# EAGLE library part REF195 (library open-ephys)
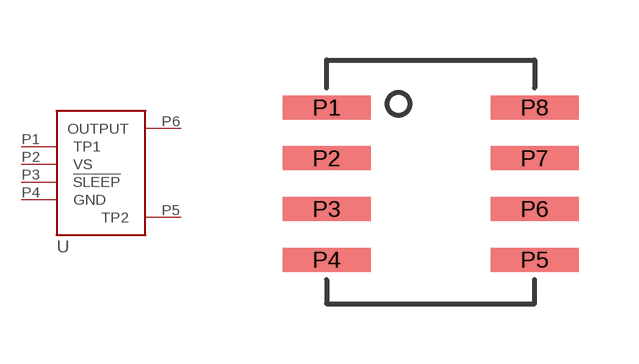
[diagram p8: symbol with the pads of 8-SOIC; footprint 8-SOIC]

Designator prefix -

## REF195  [8-SOIC]
P1  TP1
P2  VS
P3  !SLEEP!
P4  GND
P5  TP2
P6  OUTPUT

## Footprint 8-SOIC (pad centres in mm)
smd 2.2 x 0.6: P1 0,3.81; P2 0,2.54; P3 0,1.27; P4 0,0; P5 5.2,0; P6 5.2,1.27; P7 5.2,2.54; P8 5.2,3.81